# Altium integrated library Linear Technology Operational Amplifiers (LT2000-LT6000).IntLib: 1710 symbols (part 55 of 75)
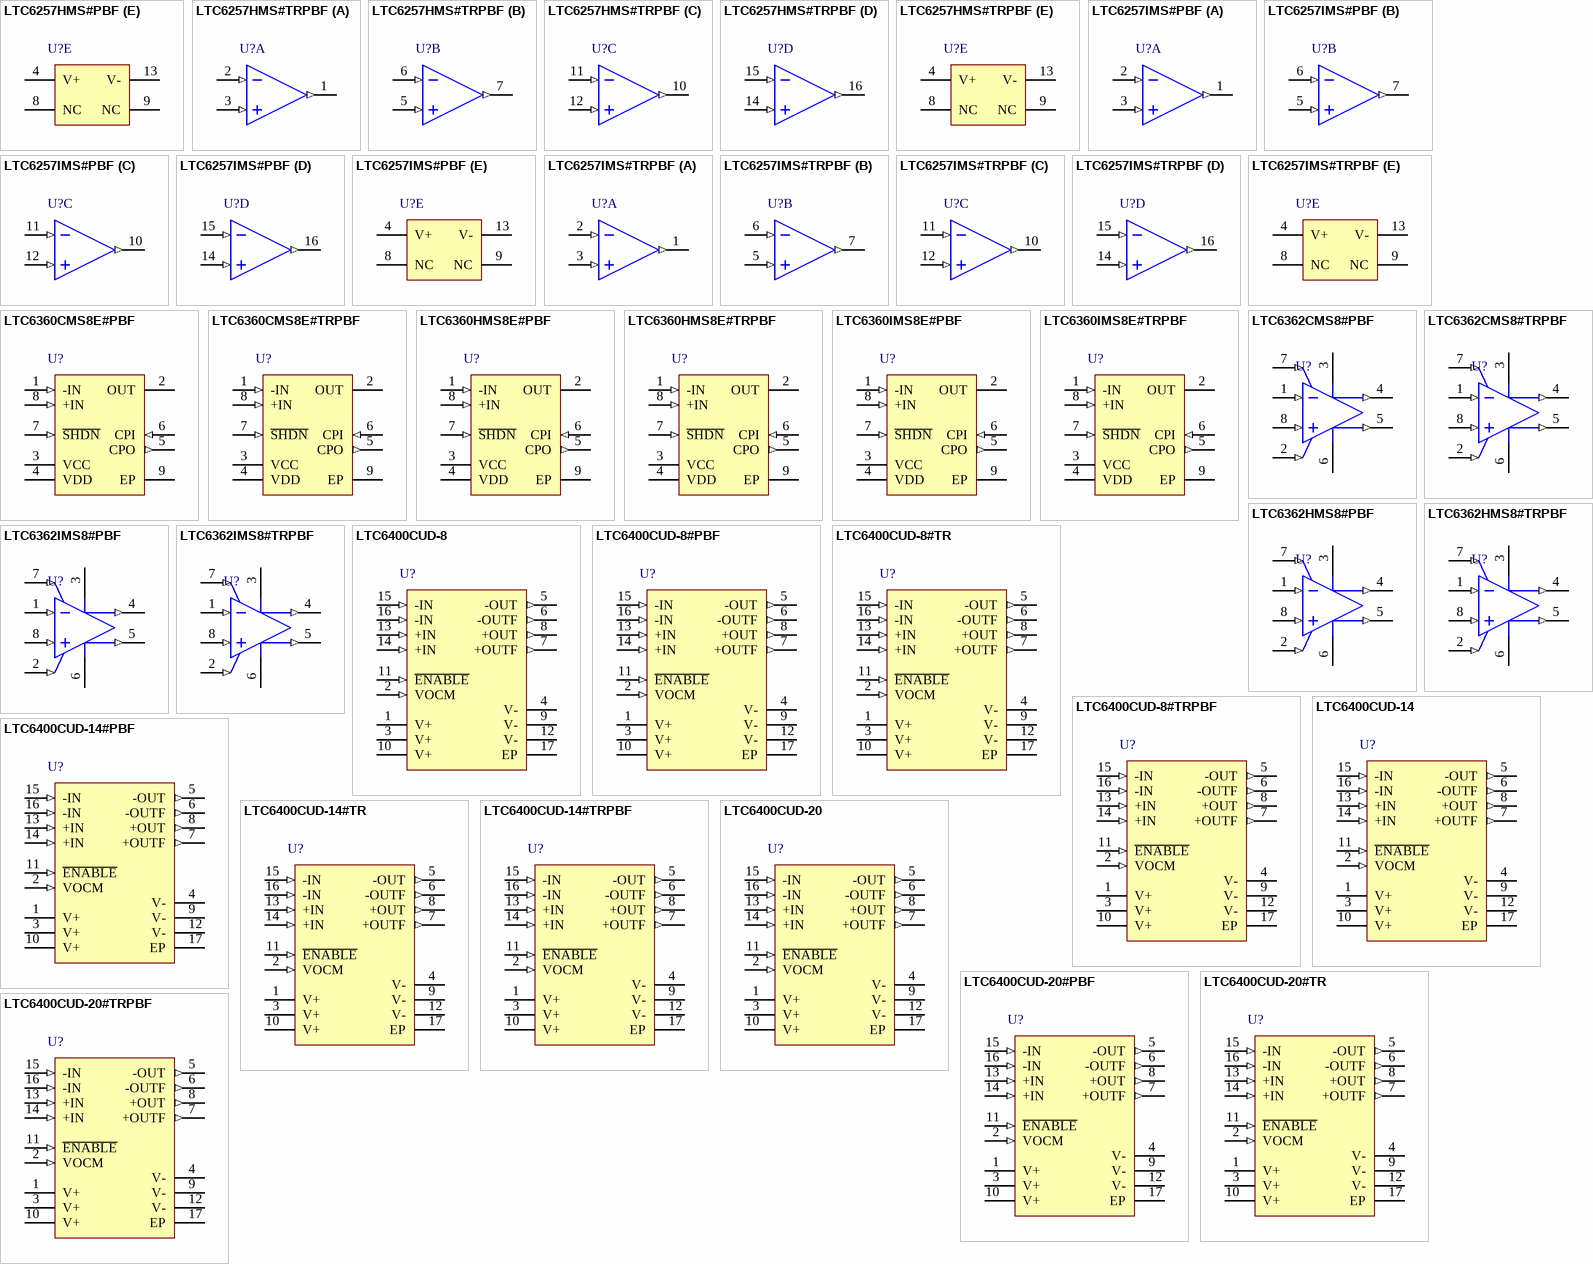
[diagram p134: symbols LTC6257HMS#PBF to LTC6400CUD-20#TRPBF]

## LTC6400CUD-14#PBF
designator U?
Single Channel, Low Noise, Low Distortion Differential ADC Driver for 300 MHz IF, 1860 MHz Typical GBW, 4800 V/us Typical SR, 2.85 to 3.5 V, 16-Pin QFN (UD-16), Commercial, Pb-Free; Linear Technology Part Number: LTC6400-14; Manufacturer: Linear Technology; PartNumber: LTC6400CUD-14#PBF; Channels (#): 1; GBW (MHz) Typical: 1860; Is (mA) Typical: 85; SR (V/us) Typical: 4800; Vos (mV) Typical: 3; Vs Max (V): 3.5; Vs Min (V): 2.85; DatasheetVersion: Rev. B; PackageReference: LT-UD-16; PackageDescription: 16-Lead Plastic QFN, Body 3.00 x 3.00 mm, Pitch 0.5 mm; Supplier 1: Digi-Key; Supplier Part Number 1: LTC6400CUD-14#PBF-ND; Supplier 2: Farnell; Supplier Part Number 2: 2314357; Supplier 3: Newark; Supplier Part Number 3: 95M6520; RoHS: Pb-Free; Type: DIFF; Mounting Technology: Surface Mount; Code_JEDEC: MO-220; ComponentLink1Description: Manufacturer URL; ComponentLink1URL: http://www.linear.com/; ComponentLink2Description: Datasheet; ComponentLink2URL: http://cds.linear.com/docs/en/datasheet/640014fb.pdf; ComponentLink3Description: Package Specification; ComponentLink3URL: http://cds.linear.com/docs/en/packaging/QFN_16_05-08-1691.pdf
footprint LT-UD-16_N (QFN, 16-Leads, Body 3x3mm, Pitch 0.5mm, Thermal Pad 1.45x1.45mm, IPC Medium Density)
footprint LT-UD-16_L (QFN, 16-Leads, Body 3x3mm, Pitch 0.5mm, Thermal Pad 1.45x1.45mm, IPC High Density)
footprint LT-UD-16_M (QFN, 16-Leads, Body 3x3mm, Pitch 0.5mm, Thermal Pad 1.45x1.45mm, IPC Low Density)
pins: 1 V+ (power) "Positive Power Supply (Normally tied to 3V or 3.3V). All three pins must be tied to the same voltage. Bypass each pin with 1000pF and 0.1uF capacitors as close to the pins as possible.", 2 VOCM (in) "This pin sets the output common mode voltage. A 0.1uF external bypass capacitor is recommended.", 3 V+ (power) "Positive Power Supply (Normally tied to 3V or 3.3V). All three pins must be tied to the same voltage. Bypass each pin with 1000pF and 0.1uF capacitors as close to the pins as possible.", 4 V- (power) "Negative Power Supply. All four pins must be connected to the same voltage/ground.", 5 -OUT (out) "Unfiltered Outputs. These pins have 12.5ohm series resistors.", 6 -OUTF (out) "Filtered Outputs. These pins have 50ohm series resistors and a 1.7pF shunt capacitance.", 7 +OUTF (out) "Filtered Outputs. These pins have 50ohm series resistors and a 1.7pF shunt capacitance.", 8 +OUT (out) "Unfiltered Outputs. These pins have 12.5ohm series resistors.", 9 V- (power) "Negative Power Supply. All four pins must be connected to the same voltage/ground.", 10 V+ (power) "Positive Power Supply (Normally tied to 3V or 3.3V). All three pins must be tied to the same voltage. Bypass each pin with 1000pF and 0.1uF capacitors as close to the pins as possible.", 11 ~{ENABLE} (in) "This pin is a logic input referenced to V-. If low, the part is enabled. If high, the part is disabled and draws approximately 1mA supply current.", 12 V- (power) "Negative Power Supply. All four pins must be connected to the same voltage/ground.", 13 +IN (in) "Positive Input. Pins 13 and 14 are internally shorted together.", 14 +IN (in) "Positive Input. Pins 13 and 14 are internally shorted together.", 15 -IN (in) "Negative Input. Pins 15 and 16 are internally shorted together.", 16 -IN (in) "Negative Input. Pins 15 and 16 are internally shorted together.", 17 EP (power) "The Exposed Pad must be connected to the same voltage/ground as pins 4, 9, 12."

## LTC6400CUD-14#TR
designator U?
Single Channel, Low Noise, Low Distortion Differential ADC Driver for 300 MHz IF, 1860 MHz Typical GBW, 4800 V/us Typical SR, 2.85 to 3.5 V, 16-Pin QFN (UD-16), Commercial, Reel; Linear Technology Part Number: LTC6400-14; Manufacturer: Linear Technology; PartNumber: LTC6400CUD-14#TR; Channels (#): 1; GBW (MHz) Typical: 1860; Is (mA) Typical: 85; SR (V/us) Typical: 4800; Vos (mV) Typical: 3; Vs Max (V): 3.5; Vs Min (V): 2.85; DatasheetVersion: Rev. B; PackageReference: LT-UD-16; PackageDescription: 16-Lead Plastic QFN, Body 3.00 x 3.00 mm, Pitch 0.5 mm; Supplier 1: Newark; Supplier Part Number 1: 95M6521; Packing: Reel; Type: DIFF; Mounting Technology: Surface Mount; Code_JEDEC: MO-220; ComponentLink1Description: Manufacturer URL; ComponentLink1URL: http://www.linear.com/; ComponentLink2Description: Datasheet; ComponentLink2URL: http://cds.linear.com/docs/en/datasheet/640014fb.pdf; ComponentLink3Description: Package Specification; ComponentLink3URL: http://cds.linear.com/docs/en/packaging/QFN_16_05-08-1691.pdf
footprint LT-UD-16_N (QFN, 16-Leads, Body 3x3mm, Pitch 0.5mm, Thermal Pad 1.45x1.45mm, IPC Medium Density)
footprint LT-UD-16_L (QFN, 16-Leads, Body 3x3mm, Pitch 0.5mm, Thermal Pad 1.45x1.45mm, IPC High Density)
footprint LT-UD-16_M (QFN, 16-Leads, Body 3x3mm, Pitch 0.5mm, Thermal Pad 1.45x1.45mm, IPC Low Density)
pins: 1 V+ (power) "Positive Power Supply (Normally tied to 3V or 3.3V). All three pins must be tied to the same voltage. Bypass each pin with 1000pF and 0.1uF capacitors as close to the pins as possible.", 2 VOCM (in) "This pin sets the output common mode voltage. A 0.1uF external bypass capacitor is recommended.", 3 V+ (power) "Positive Power Supply (Normally tied to 3V or 3.3V). All three pins must be tied to the same voltage. Bypass each pin with 1000pF and 0.1uF capacitors as close to the pins as possible.", 4 V- (power) "Negative Power Supply. All four pins must be connected to the same voltage/ground.", 5 -OUT (out) "Unfiltered Outputs. These pins have 12.5ohm series resistors.", 6 -OUTF (out) "Filtered Outputs. These pins have 50ohm series resistors and a 1.7pF shunt capacitance.", 7 +OUTF (out) "Filtered Outputs. These pins have 50ohm series resistors and a 1.7pF shunt capacitance.", 8 +OUT (out) "Unfiltered Outputs. These pins have 12.5ohm series resistors.", 9 V- (power) "Negative Power Supply. All four pins must be connected to the same voltage/ground.", 10 V+ (power) "Positive Power Supply (Normally tied to 3V or 3.3V). All three pins must be tied to the same voltage. Bypass each pin with 1000pF and 0.1uF capacitors as close to the pins as possible.", 11 ~{ENABLE} (in) "This pin is a logic input referenced to V-. If low, the part is enabled. If high, the part is disabled and draws approximately 1mA supply current.", 12 V- (power) "Negative Power Supply. All four pins must be connected to the same voltage/ground.", 13 +IN (in) "Positive Input. Pins 13 and 14 are internally shorted together.", 14 +IN (in) "Positive Input. Pins 13 and 14 are internally shorted together.", 15 -IN (in) "Negative Input. Pins 15 and 16 are internally shorted together.", 16 -IN (in) "Negative Input. Pins 15 and 16 are internally shorted together.", 17 EP (power) "The Exposed Pad must be connected to the same voltage/ground as pins 4, 9, 12."

## LTC6400CUD-14#TRPBF
designator U?
Single Channel, Low Noise, Low Distortion Differential ADC Driver for 300 MHz IF, 1860 MHz Typical GBW, 4800 V/us Typical SR, 2.85 to 3.5 V, 16-Pin QFN (UD-16), Commercial, Pb-Free, Reel; Linear Technology Part Number: LTC6400-14; Manufacturer: Linear Technology; PartNumber: LTC6400CUD-14#TRPBF; Channels (#): 1; GBW (MHz) Typical: 1860; Is (mA) Typical: 85; SR (V/us) Typical: 4800; Vos (mV) Typical: 3; Vs Max (V): 3.5; Vs Min (V): 2.85; DatasheetVersion: Rev. B; PackageReference: LT-UD-16; PackageDescription: 16-Lead Plastic QFN, Body 3.00 x 3.00 mm, Pitch 0.5 mm; Supplier 1: Digi-Key; Supplier Part Number 1: LTC6400CUD-14#TRPBF-ND; Supplier 2: Newark; Supplier Part Number 2: 95M6522; Packing: Reel; RoHS: Pb-Free; Type: DIFF; Mounting Technology: Surface Mount; Code_JEDEC: MO-220; ComponentLink1Description: Manufacturer URL; ComponentLink1URL: http://www.linear.com/; ComponentLink2Description: Datasheet; ComponentLink2URL: http://cds.linear.com/docs/en/datasheet/640014fb.pdf; ComponentLink3Description: Package Specification; ComponentLink3URL: http://cds.linear.com/docs/en/packaging/QFN_16_05-08-1691.pdf
footprint LT-UD-16_N (QFN, 16-Leads, Body 3x3mm, Pitch 0.5mm, Thermal Pad 1.45x1.45mm, IPC Medium Density)
footprint LT-UD-16_L (QFN, 16-Leads, Body 3x3mm, Pitch 0.5mm, Thermal Pad 1.45x1.45mm, IPC High Density)
footprint LT-UD-16_M (QFN, 16-Leads, Body 3x3mm, Pitch 0.5mm, Thermal Pad 1.45x1.45mm, IPC Low Density)
pins: 1 V+ (power) "Positive Power Supply (Normally tied to 3V or 3.3V). All three pins must be tied to the same voltage. Bypass each pin with 1000pF and 0.1uF capacitors as close to the pins as possible.", 2 VOCM (in) "This pin sets the output common mode voltage. A 0.1uF external bypass capacitor is recommended.", 3 V+ (power) "Positive Power Supply (Normally tied to 3V or 3.3V). All three pins must be tied to the same voltage. Bypass each pin with 1000pF and 0.1uF capacitors as close to the pins as possible.", 4 V- (power) "Negative Power Supply. All four pins must be connected to the same voltage/ground.", 5 -OUT (out) "Unfiltered Outputs. These pins have 12.5ohm series resistors.", 6 -OUTF (out) "Filtered Outputs. These pins have 50ohm series resistors and a 1.7pF shunt capacitance.", 7 +OUTF (out) "Filtered Outputs. These pins have 50ohm series resistors and a 1.7pF shunt capacitance.", 8 +OUT (out) "Unfiltered Outputs. These pins have 12.5ohm series resistors.", 9 V- (power) "Negative Power Supply. All four pins must be connected to the same voltage/ground.", 10 V+ (power) "Positive Power Supply (Normally tied to 3V or 3.3V). All three pins must be tied to the same voltage. Bypass each pin with 1000pF and 0.1uF capacitors as close to the pins as possible.", 11 ~{ENABLE} (in) "This pin is a logic input referenced to V-. If low, the part is enabled. If high, the part is disabled and draws approximately 1mA supply current.", 12 V- (power) "Negative Power Supply. All four pins must be connected to the same voltage/ground.", 13 +IN (in) "Positive Input. Pins 13 and 14 are internally shorted together.", 14 +IN (in) "Positive Input. Pins 13 and 14 are internally shorted together.", 15 -IN (in) "Negative Input. Pins 15 and 16 are internally shorted together.", 16 -IN (in) "Negative Input. Pins 15 and 16 are internally shorted together.", 17 EP (power) "The Exposed Pad must be connected to the same voltage/ground as pins 4, 9, 12."

## LTC6400CUD-20
designator U?
Single Channel, Low Noise, Low Distortion Differential ADC Driver for 300 MHz IF, 1800 MHz Typical GBW, 4500 V/us Typical SR, 2.85 to 3.5 V, 16-Pin QFN (UD-16), Commercial; Linear Technology Part Number: LTC6400-20; Manufacturer: Linear Technology; PartNumber: LTC6400CUD-20; Channels (#): 1; GBW (MHz) Typical: 1800; Is (mA) Typical: 90; SR (V/us) Typical: 4500; Vos (mV) Typical: 2; Vs Max (V): 3.5; Vs Min (V): 2.85; PackageReference: LT-UD-16; PackageDescription: 16-Lead Plastic QFN, Body 3.00 x 3.00 mm, Pitch 0.5 mm; Type: DIFF; Mounting Technology: Surface Mount; Code_JEDEC: MO-220; ComponentLink1Description: Manufacturer URL; ComponentLink1URL: http://www.linear.com/; ComponentLink2Description: Datasheet; ComponentLink2URL: http://cds.linear.com/docs/en/datasheet/640020f.pdf; ComponentLink3Description: Package Specification; ComponentLink3URL: http://cds.linear.com/docs/en/packaging/QFN_16_05-08-1691.pdf
footprint LT-UD-16_N (QFN, 16-Leads, Body 3x3mm, Pitch 0.5mm, Thermal Pad 1.45x1.45mm, IPC Medium Density)
footprint LT-UD-16_L (QFN, 16-Leads, Body 3x3mm, Pitch 0.5mm, Thermal Pad 1.45x1.45mm, IPC High Density)
footprint LT-UD-16_M (QFN, 16-Leads, Body 3x3mm, Pitch 0.5mm, Thermal Pad 1.45x1.45mm, IPC Low Density)
pins: 1 V+ (power) "Positive Power Supply (Normally tied to 3V or 3.3V). All three pins must be tied to the same voltage. Bypass each pin with 1000pF and 0.1uF capacitors as close to the pins as possible.", 2 VOCM (in) "This pin sets the output common mode voltage. A 0.1uF external bypass capacitor is recommended.", 3 V+ (power) "Positive Power Supply (Normally tied to 3V or 3.3V). All three pins must be tied to the same voltage. Bypass each pin with 1000pF and 0.1uF capacitors as close to the pins as possible.", 4 V- (power) "Negative Power Supply. All four pins must be connected to the same voltage/ground.", 5 -OUT (out) "Unfiltered Outputs. These pins have 12.5ohm series resistors.", 6 -OUTF (out) "Filtered Outputs. These pins have 50ohm series resistors and a 1.7pF shunt capacitance.", 7 +OUTF (out) "Filtered Outputs. These pins have 50ohm series resistors and a 1.7pF shunt capacitance.", 8 +OUT (out) "Unfiltered Outputs. These pins have 12.5ohm series resistors.", 9 V- (power) "Negative Power Supply. All four pins must be connected to the same voltage/ground.", 10 V+ (power) "Positive Power Supply (Normally tied to 3V or 3.3V). All three pins must be tied to the same voltage. Bypass each pin with 1000pF and 0.1uF capacitors as close to the pins as possible.", 11 ~{ENABLE} (in) "This pin is a logic input referenced to V-. If low, the part is enabled. If high, the part is disabled and draws approximately 1mA supply current.", 12 V- (power) "Negative Power Supply. All four pins must be connected to the same voltage/ground.", 13 +IN (in) "Positive Input. Pins 13 and 14 are internally shorted together.", 14 +IN (in) "Positive Input. Pins 13 and 14 are internally shorted together.", 15 -IN (in) "Negative Input. Pins 15 and 16 are internally shorted together.", 16 -IN (in) "Negative Input. Pins 15 and 16 are internally shorted together.", 17 EP (power) "The Exposed Pad must be connected to the same voltage/ground as pins 4, 9, 12."

## LTC6400CUD-20#PBF
designator U?
Single Channel, Low Noise, Low Distortion Differential ADC Driver for 300 MHz IF, 1800 MHz Typical GBW, 4500 V/us Typical SR, 2.85 to 3.5 V, 16-Pin QFN (UD-16), Commercial, Pb-Free; Linear Technology Part Number: LTC6400-20; Manufacturer: Linear Technology; PartNumber: LTC6400CUD-20#PBF; Channels (#): 1; GBW (MHz) Typical: 1800; Is (mA) Typical: 90; SR (V/us) Typical: 4500; Vos (mV) Typical: 2; Vs Max (V): 3.5; Vs Min (V): 2.85; PackageReference: LT-UD-16; PackageDescription: 16-Lead Plastic QFN, Body 3.00 x 3.00 mm, Pitch 0.5 mm; Supplier 1: Digi-Key; Supplier Part Number 1: LTC6400CUD-20#PBF-ND; Supplier 2: Newark; Supplier Part Number 2: 57M0101; RoHS: Pb-Free; Type: DIFF; Mounting Technology: Surface Mount; Code_JEDEC: MO-220; ComponentLink1Description: Manufacturer URL; ComponentLink1URL: http://www.linear.com/; ComponentLink2Description: Datasheet; ComponentLink2URL: http://cds.linear.com/docs/en/datasheet/640020f.pdf; ComponentLink3Description: Package Specification; ComponentLink3URL: http://cds.linear.com/docs/en/packaging/QFN_16_05-08-1691.pdf
footprint LT-UD-16_N (QFN, 16-Leads, Body 3x3mm, Pitch 0.5mm, Thermal Pad 1.45x1.45mm, IPC Medium Density)
footprint LT-UD-16_L (QFN, 16-Leads, Body 3x3mm, Pitch 0.5mm, Thermal Pad 1.45x1.45mm, IPC High Density)
footprint LT-UD-16_M (QFN, 16-Leads, Body 3x3mm, Pitch 0.5mm, Thermal Pad 1.45x1.45mm, IPC Low Density)
pins: 1 V+ (power) "Positive Power Supply (Normally tied to 3V or 3.3V). All three pins must be tied to the same voltage. Bypass each pin with 1000pF and 0.1uF capacitors as close to the pins as possible.", 2 VOCM (in) "This pin sets the output common mode voltage. A 0.1uF external bypass capacitor is recommended.", 3 V+ (power) "Positive Power Supply (Normally tied to 3V or 3.3V). All three pins must be tied to the same voltage. Bypass each pin with 1000pF and 0.1uF capacitors as close to the pins as possible.", 4 V- (power) "Negative Power Supply. All four pins must be connected to the same voltage/ground.", 5 -OUT (out) "Unfiltered Outputs. These pins have 12.5ohm series resistors.", 6 -OUTF (out) "Filtered Outputs. These pins have 50ohm series resistors and a 1.7pF shunt capacitance.", 7 +OUTF (out) "Filtered Outputs. These pins have 50ohm series resistors and a 1.7pF shunt capacitance.", 8 +OUT (out) "Unfiltered Outputs. These pins have 12.5ohm series resistors.", 9 V- (power) "Negative Power Supply. All four pins must be connected to the same voltage/ground.", 10 V+ (power) "Positive Power Supply (Normally tied to 3V or 3.3V). All three pins must be tied to the same voltage. Bypass each pin with 1000pF and 0.1uF capacitors as close to the pins as possible.", 11 ~{ENABLE} (in) "This pin is a logic input referenced to V-. If low, the part is enabled. If high, the part is disabled and draws approximately 1mA supply current.", 12 V- (power) "Negative Power Supply. All four pins must be connected to the same voltage/ground.", 13 +IN (in) "Positive Input. Pins 13 and 14 are internally shorted together.", 14 +IN (in) "Positive Input. Pins 13 and 14 are internally shorted together.", 15 -IN (in) "Negative Input. Pins 15 and 16 are internally shorted together.", 16 -IN (in) "Negative Input. Pins 15 and 16 are internally shorted together.", 17 EP (power) "The Exposed Pad must be connected to the same voltage/ground as pins 4, 9, 12."

## LTC6400CUD-20#TR
designator U?
Single Channel, Low Noise, Low Distortion Differential ADC Driver for 300 MHz IF, 1800 MHz Typical GBW, 4500 V/us Typical SR, 2.85 to 3.5 V, 16-Pin QFN (UD-16), Commercial, Reel; Linear Technology Part Number: LTC6400-20; Manufacturer: Linear Technology; PartNumber: LTC6400CUD-20#TR; Channels (#): 1; GBW (MHz) Typical: 1800; Is (mA) Typical: 90; SR (V/us) Typical: 4500; Vos (mV) Typical: 2; Vs Max (V): 3.5; Vs Min (V): 2.85; PackageReference: LT-UD-16; PackageDescription: 16-Lead Plastic QFN, Body 3.00 x 3.00 mm, Pitch 0.5 mm; Supplier 1: Newark; Supplier Part Number 1: 57M0102; Packing: Reel; Type: DIFF; Mounting Technology: Surface Mount; Code_JEDEC: MO-220; ComponentLink1Description: Manufacturer URL; ComponentLink1URL: http://www.linear.com/; ComponentLink2Description: Datasheet; ComponentLink2URL: http://cds.linear.com/docs/en/datasheet/640020f.pdf; ComponentLink3Description: Package Specification; ComponentLink3URL: http://cds.linear.com/docs/en/packaging/QFN_16_05-08-1691.pdf
footprint LT-UD-16_N (QFN, 16-Leads, Body 3x3mm, Pitch 0.5mm, Thermal Pad 1.45x1.45mm, IPC Medium Density)
footprint LT-UD-16_L (QFN, 16-Leads, Body 3x3mm, Pitch 0.5mm, Thermal Pad 1.45x1.45mm, IPC High Density)
footprint LT-UD-16_M (QFN, 16-Leads, Body 3x3mm, Pitch 0.5mm, Thermal Pad 1.45x1.45mm, IPC Low Density)
pins: 1 V+ (power) "Positive Power Supply (Normally tied to 3V or 3.3V). All three pins must be tied to the same voltage. Bypass each pin with 1000pF and 0.1uF capacitors as close to the pins as possible.", 2 VOCM (in) "This pin sets the output common mode voltage. A 0.1uF external bypass capacitor is recommended.", 3 V+ (power) "Positive Power Supply (Normally tied to 3V or 3.3V). All three pins must be tied to the same voltage. Bypass each pin with 1000pF and 0.1uF capacitors as close to the pins as possible.", 4 V- (power) "Negative Power Supply. All four pins must be connected to the same voltage/ground.", 5 -OUT (out) "Unfiltered Outputs. These pins have 12.5ohm series resistors.", 6 -OUTF (out) "Filtered Outputs. These pins have 50ohm series resistors and a 1.7pF shunt capacitance.", 7 +OUTF (out) "Filtered Outputs. These pins have 50ohm series resistors and a 1.7pF shunt capacitance.", 8 +OUT (out) "Unfiltered Outputs. These pins have 12.5ohm series resistors.", 9 V- (power) "Negative Power Supply. All four pins must be connected to the same voltage/ground.", 10 V+ (power) "Positive Power Supply (Normally tied to 3V or 3.3V). All three pins must be tied to the same voltage. Bypass each pin with 1000pF and 0.1uF capacitors as close to the pins as possible.", 11 ~{ENABLE} (in) "This pin is a logic input referenced to V-. If low, the part is enabled. If high, the part is disabled and draws approximately 1mA supply current.", 12 V- (power) "Negative Power Supply. All four pins must be connected to the same voltage/ground.", 13 +IN (in) "Positive Input. Pins 13 and 14 are internally shorted together.", 14 +IN (in) "Positive Input. Pins 13 and 14 are internally shorted together.", 15 -IN (in) "Negative Input. Pins 15 and 16 are internally shorted together.", 16 -IN (in) "Negative Input. Pins 15 and 16 are internally shorted together.", 17 EP (power) "The Exposed Pad must be connected to the same voltage/ground as pins 4, 9, 12."

## LTC6400CUD-20#TRPBF
designator U?
Single Channel, Low Noise, Low Distortion Differential ADC Driver for 300 MHz IF, 1800 MHz Typical GBW, 4500 V/us Typical SR, 2.85 to 3.5 V, 16-Pin QFN (UD-16), Commercial, Pb-Free, Reel; Linear Technology Part Number: LTC6400-20; Manufacturer: Linear Technology; PartNumber: LTC6400CUD-20#TRPBF; Channels (#): 1; GBW (MHz) Typical: 1800; Is (mA) Typical: 90; SR (V/us) Typical: 4500; Vos (mV) Typical: 2; Vs Max (V): 3.5; Vs Min (V): 2.85; PackageReference: LT-UD-16; PackageDescription: 16-Lead Plastic QFN, Body 3.00 x 3.00 mm, Pitch 0.5 mm; Supplier 1: Digi-Key; Supplier Part Number 1: LTC6400CUD-20#TRPBF-ND; Supplier 2: Newark; Supplier Part Number 2: 57M0103; Packing: Reel; RoHS: Pb-Free; Type: DIFF; Mounting Technology: Surface Mount; Code_JEDEC: MO-220; ComponentLink1Description: Manufacturer URL; ComponentLink1URL: http://www.linear.com/; ComponentLink2Description: Datasheet; ComponentLink2URL: http://cds.linear.com/docs/en/datasheet/640020f.pdf; ComponentLink3Description: Package Specification; ComponentLink3URL: http://cds.linear.com/docs/en/packaging/QFN_16_05-08-1691.pdf
footprint LT-UD-16_N (QFN, 16-Leads, Body 3x3mm, Pitch 0.5mm, Thermal Pad 1.45x1.45mm, IPC Medium Density)
footprint LT-UD-16_L (QFN, 16-Leads, Body 3x3mm, Pitch 0.5mm, Thermal Pad 1.45x1.45mm, IPC High Density)
footprint LT-UD-16_M (QFN, 16-Leads, Body 3x3mm, Pitch 0.5mm, Thermal Pad 1.45x1.45mm, IPC Low Density)
pins: 1 V+ (power) "Positive Power Supply (Normally tied to 3V or 3.3V). All three pins must be tied to the same voltage. Bypass each pin with 1000pF and 0.1uF capacitors as close to the pins as possible.", 2 VOCM (in) "This pin sets the output common mode voltage. A 0.1uF external bypass capacitor is recommended.", 3 V+ (power) "Positive Power Supply (Normally tied to 3V or 3.3V). All three pins must be tied to the same voltage. Bypass each pin with 1000pF and 0.1uF capacitors as close to the pins as possible.", 4 V- (power) "Negative Power Supply. All four pins must be connected to the same voltage/ground.", 5 -OUT (out) "Unfiltered Outputs. These pins have 12.5ohm series resistors.", 6 -OUTF (out) "Filtered Outputs. These pins have 50ohm series resistors and a 1.7pF shunt capacitance.", 7 +OUTF (out) "Filtered Outputs. These pins have 50ohm series resistors and a 1.7pF shunt capacitance.", 8 +OUT (out) "Unfiltered Outputs. These pins have 12.5ohm series resistors.", 9 V- (power) "Negative Power Supply. All four pins must be connected to the same voltage/ground.", 10 V+ (power) "Positive Power Supply (Normally tied to 3V or 3.3V). All three pins must be tied to the same voltage. Bypass each pin with 1000pF and 0.1uF capacitors as close to the pins as possible.", 11 ~{ENABLE} (in) "This pin is a logic input referenced to V-. If low, the part is enabled. If high, the part is disabled and draws approximately 1mA supply current.", 12 V- (power) "Negative Power Supply. All four pins must be connected to the same voltage/ground.", 13 +IN (in) "Positive Input. Pins 13 and 14 are internally shorted together.", 14 +IN (in) "Positive Input. Pins 13 and 14 are internally shorted together.", 15 -IN (in) "Negative Input. Pins 15 and 16 are internally shorted together.", 16 -IN (in) "Negative Input. Pins 15 and 16 are internally shorted together.", 17 EP (power) "The Exposed Pad must be connected to the same voltage/ground as pins 4, 9, 12."

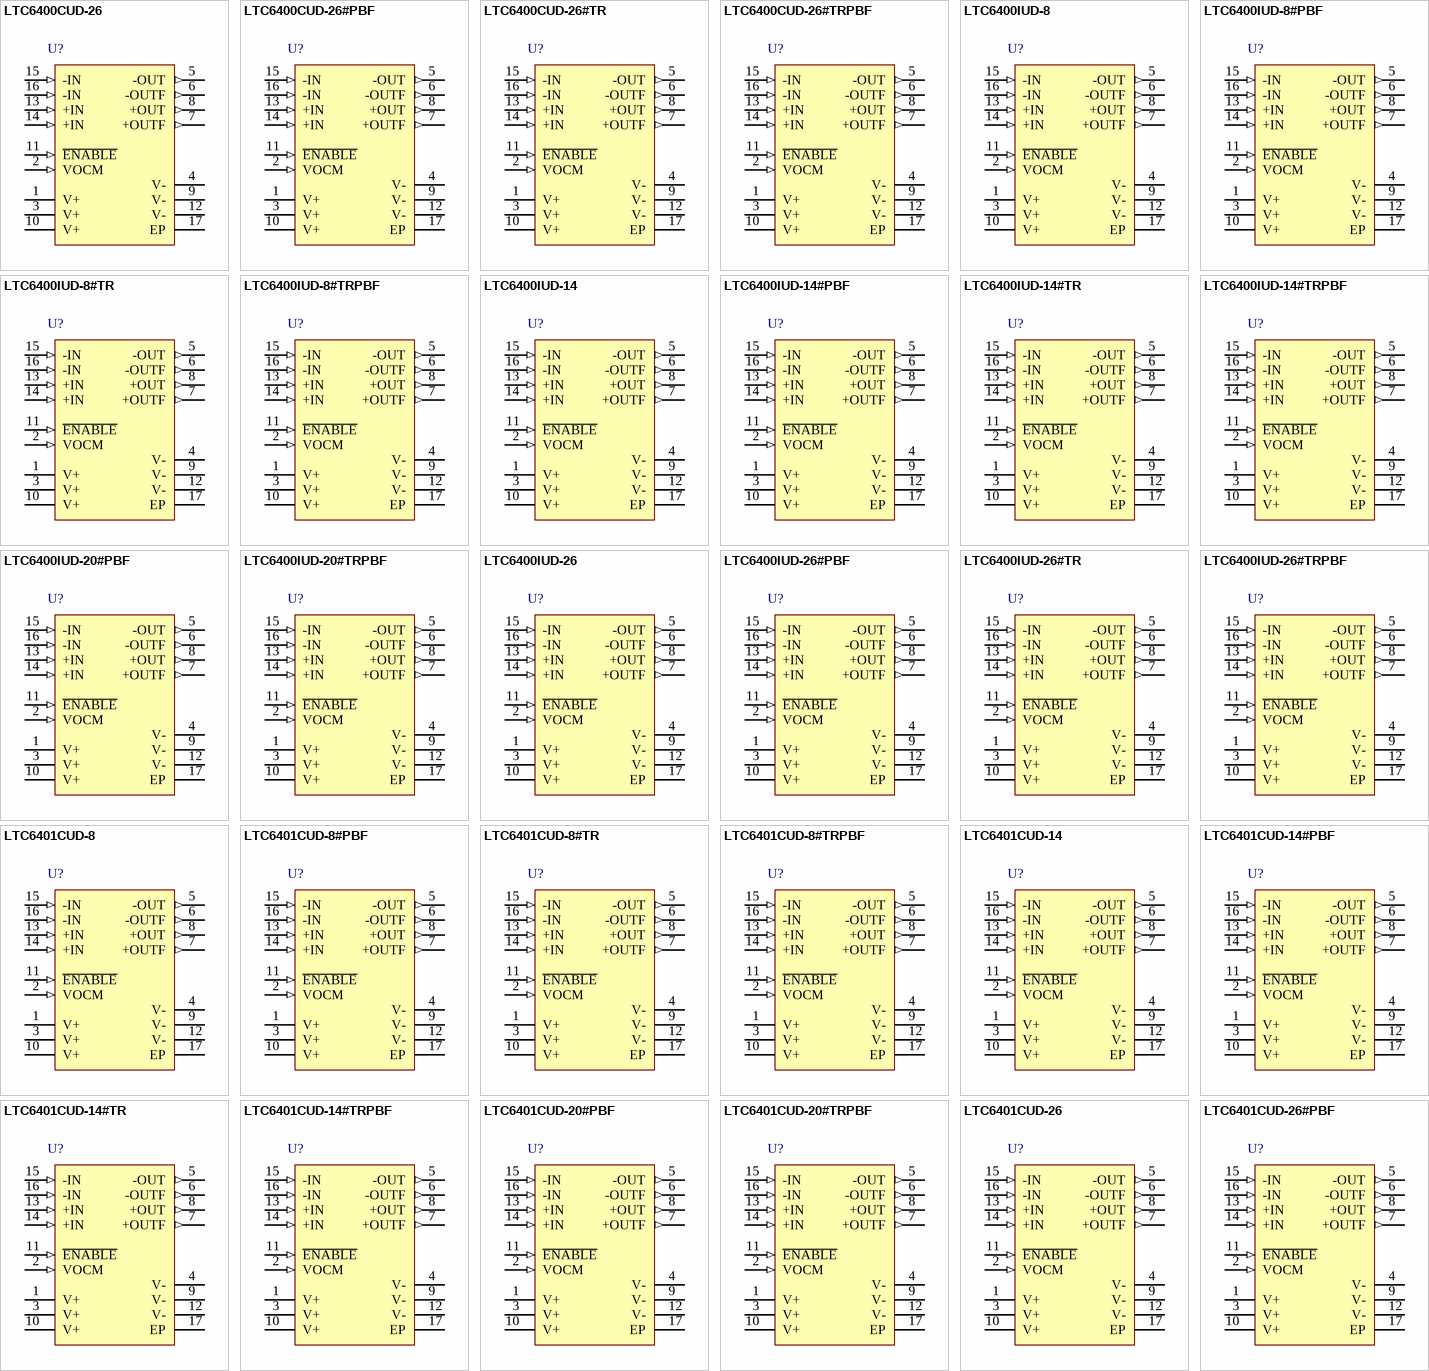
[diagram p72: symbols LTC6400CUD-26 to LTC6401CUD-26#PBF]

## LTC6400CUD-26
designator U?
Single Channel, Low Noise, Low Distortion Differential ADC Driver for DC-300 MHz, 1900 MHz Typical GBW, 6670 V/us Typical SR, 2.85 to 3.5 V, 16-Pin QFN (UD-16), Commercial; Linear Technology Part Number: LTC6400-26; Manufacturer: Linear Technology; PartNumber: LTC6400CUD-26; Channels (#): 1; GBW (MHz) Typical: 1900; Is (mA) Typical: 85; SR (V/us) Typical: 6670; Vos (mV) Typical: 2; Vs Max (V): 3.5; Vs Min (V): 2.85; DatasheetVersion: Rev. A; PackageReference: LT-UD-16; PackageDescription: 16-Lead Plastic QFN, Body 3.00 x 3.00 mm, Pitch 0.5 mm; Type: DIFF; Mounting Technology: Surface Mount; Code_JEDEC: MO-220; ComponentLink1Description: Manufacturer URL; ComponentLink1URL: http://www.linear.com/; ComponentLink2Description: Datasheet; ComponentLink2URL: http://cds.linear.com/docs/en/datasheet/640026fa.pdf; ComponentLink3Description: Package Specification; ComponentLink3URL: http://cds.linear.com/docs/en/packaging/QFN_16_05-08-1691.pdf
footprint LT-UD-16_N (QFN, 16-Leads, Body 3x3mm, Pitch 0.5mm, Thermal Pad 1.45x1.45mm, IPC Medium Density)
footprint LT-UD-16_L (QFN, 16-Leads, Body 3x3mm, Pitch 0.5mm, Thermal Pad 1.45x1.45mm, IPC High Density)
footprint LT-UD-16_M (QFN, 16-Leads, Body 3x3mm, Pitch 0.5mm, Thermal Pad 1.45x1.45mm, IPC Low Density)
pins: 1 V+ (power) "Positive Power Supply (Normally tied to 3V or 3.3V). All three pins must be tied to the same voltage. Bypass each pin with 1000pF and 0.1uF capacitors as close to the pins as possible.", 2 VOCM (in) "This pin sets the output common mode voltage. A 0.1uF external bypass capacitor is recommended.", 3 V+ (power) "Positive Power Supply (Normally tied to 3V or 3.3V). All three pins must be tied to the same voltage. Bypass each pin with 1000pF and 0.1uF capacitors as close to the pins as possible.", 4 V- (power) "Negative Power Supply. All four pins must be connected to the same voltage/ground.", 5 -OUT (out) "Unfiltered Outputs. These pins have 12.5ohm series resistors.", 6 -OUTF (out) "Filtered Outputs. These pins have 50ohm series resistors and a 1.7pF shunt capacitance.", 7 +OUTF (out) "Filtered Outputs. These pins have 50ohm series resistors and a 1.7pF shunt capacitance.", 8 +OUT (out) "Unfiltered Outputs. These pins have 12.5ohm series resistors.", 9 V- (power) "Negative Power Supply. All four pins must be connected to the same voltage/ground.", 10 V+ (power) "Positive Power Supply (Normally tied to 3V or 3.3V). All three pins must be tied to the same voltage. Bypass each pin with 1000pF and 0.1uF capacitors as close to the pins as possible.", 11 ~{ENABLE} (in) "This pin is a logic input referenced to V-. If low, the part is enabled. If high, the part is disabled and draws approximately 1mA supply current.", 12 V- (power) "Negative Power Supply. All four pins must be connected to the same voltage/ground.", 13 +IN (in) "Positive Input. Pins 13 and 14 are internally shorted together.", 14 +IN (in) "Positive Input. Pins 13 and 14 are internally shorted together.", 15 -IN (in) "Negative Input. Pins 15 and 16 are internally shorted together.", 16 -IN (in) "Negative Input. Pins 15 and 16 are internally shorted together.", 17 EP (power) "The Exposed Pad must be connected to the same voltage/ground as pins 4, 9, 12."

## LTC6400CUD-26#PBF
designator U?
Single Channel, Low Noise, Low Distortion Differential ADC Driver for DC-300 MHz, 1900 MHz Typical GBW, 6670 V/us Typical SR, 2.85 to 3.5 V, 16-Pin QFN (UD-16), Commercial, Pb-Free; Linear Technology Part Number: LTC6400-26; Manufacturer: Linear Technology; PartNumber: LTC6400CUD-26#PBF; Channels (#): 1; GBW (MHz) Typical: 1900; Is (mA) Typical: 85; SR (V/us) Typical: 6670; Vos (mV) Typical: 2; Vs Max (V): 3.5; Vs Min (V): 2.85; DatasheetVersion: Rev. A; PackageReference: LT-UD-16; PackageDescription: 16-Lead Plastic QFN, Body 3.00 x 3.00 mm, Pitch 0.5 mm; Supplier 1: Digi-Key; Supplier Part Number 1: LTC6400CUD-26#PBF-ND; Supplier 2: Newark; Supplier Part Number 2: 57M0105; RoHS: Pb-Free; Type: DIFF; Mounting Technology: Surface Mount; Code_JEDEC: MO-220; ComponentLink1Description: Manufacturer URL; ComponentLink1URL: http://www.linear.com/; ComponentLink2Description: Datasheet; ComponentLink2URL: http://cds.linear.com/docs/en/datasheet/640026fa.pdf; ComponentLink3Description: Package Specification; ComponentLink3URL: http://cds.linear.com/docs/en/packaging/QFN_16_05-08-1691.pdf
footprint LT-UD-16_N (QFN, 16-Leads, Body 3x3mm, Pitch 0.5mm, Thermal Pad 1.45x1.45mm, IPC Medium Density)
footprint LT-UD-16_L (QFN, 16-Leads, Body 3x3mm, Pitch 0.5mm, Thermal Pad 1.45x1.45mm, IPC High Density)
footprint LT-UD-16_M (QFN, 16-Leads, Body 3x3mm, Pitch 0.5mm, Thermal Pad 1.45x1.45mm, IPC Low Density)
pins: 1 V+ (power) "Positive Power Supply (Normally tied to 3V or 3.3V). All three pins must be tied to the same voltage. Bypass each pin with 1000pF and 0.1uF capacitors as close to the pins as possible.", 2 VOCM (in) "This pin sets the output common mode voltage. A 0.1uF external bypass capacitor is recommended.", 3 V+ (power) "Positive Power Supply (Normally tied to 3V or 3.3V). All three pins must be tied to the same voltage. Bypass each pin with 1000pF and 0.1uF capacitors as close to the pins as possible.", 4 V- (power) "Negative Power Supply. All four pins must be connected to the same voltage/ground.", 5 -OUT (out) "Unfiltered Outputs. These pins have 12.5ohm series resistors.", 6 -OUTF (out) "Filtered Outputs. These pins have 50ohm series resistors and a 1.7pF shunt capacitance.", 7 +OUTF (out) "Filtered Outputs. These pins have 50ohm series resistors and a 1.7pF shunt capacitance.", 8 +OUT (out) "Unfiltered Outputs. These pins have 12.5ohm series resistors.", 9 V- (power) "Negative Power Supply. All four pins must be connected to the same voltage/ground.", 10 V+ (power) "Positive Power Supply (Normally tied to 3V or 3.3V). All three pins must be tied to the same voltage. Bypass each pin with 1000pF and 0.1uF capacitors as close to the pins as possible.", 11 ~{ENABLE} (in) "This pin is a logic input referenced to V-. If low, the part is enabled. If high, the part is disabled and draws approximately 1mA supply current.", 12 V- (power) "Negative Power Supply. All four pins must be connected to the same voltage/ground.", 13 +IN (in) "Positive Input. Pins 13 and 14 are internally shorted together.", 14 +IN (in) "Positive Input. Pins 13 and 14 are internally shorted together.", 15 -IN (in) "Negative Input. Pins 15 and 16 are internally shorted together.", 16 -IN (in) "Negative Input. Pins 15 and 16 are internally shorted together.", 17 EP (power) "The Exposed Pad must be connected to the same voltage/ground as pins 4, 9, 12."

## LTC6400CUD-26#TR
designator U?
Single Channel, Low Noise, Low Distortion Differential ADC Driver for DC-300 MHz, 1900 MHz Typical GBW, 6670 V/us Typical SR, 2.85 to 3.5 V, 16-Pin QFN (UD-16), Commercial, Reel; Linear Technology Part Number: LTC6400-26; Manufacturer: Linear Technology; PartNumber: LTC6400CUD-26#TR; Channels (#): 1; GBW (MHz) Typical: 1900; Is (mA) Typical: 85; SR (V/us) Typical: 6670; Vos (mV) Typical: 2; Vs Max (V): 3.5; Vs Min (V): 2.85; DatasheetVersion: Rev. A; PackageReference: LT-UD-16; PackageDescription: 16-Lead Plastic QFN, Body 3.00 x 3.00 mm, Pitch 0.5 mm; Supplier 1: Newark; Supplier Part Number 1: 57M0106; Packing: Reel; Type: DIFF; Mounting Technology: Surface Mount; Code_JEDEC: MO-220; ComponentLink1Description: Manufacturer URL; ComponentLink1URL: http://www.linear.com/; ComponentLink2Description: Datasheet; ComponentLink2URL: http://cds.linear.com/docs/en/datasheet/640026fa.pdf; ComponentLink3Description: Package Specification; ComponentLink3URL: http://cds.linear.com/docs/en/packaging/QFN_16_05-08-1691.pdf
footprint LT-UD-16_N (QFN, 16-Leads, Body 3x3mm, Pitch 0.5mm, Thermal Pad 1.45x1.45mm, IPC Medium Density)
footprint LT-UD-16_L (QFN, 16-Leads, Body 3x3mm, Pitch 0.5mm, Thermal Pad 1.45x1.45mm, IPC High Density)
footprint LT-UD-16_M (QFN, 16-Leads, Body 3x3mm, Pitch 0.5mm, Thermal Pad 1.45x1.45mm, IPC Low Density)
pins: 1 V+ (power) "Positive Power Supply (Normally tied to 3V or 3.3V). All three pins must be tied to the same voltage. Bypass each pin with 1000pF and 0.1uF capacitors as close to the pins as possible.", 2 VOCM (in) "This pin sets the output common mode voltage. A 0.1uF external bypass capacitor is recommended.", 3 V+ (power) "Positive Power Supply (Normally tied to 3V or 3.3V). All three pins must be tied to the same voltage. Bypass each pin with 1000pF and 0.1uF capacitors as close to the pins as possible.", 4 V- (power) "Negative Power Supply. All four pins must be connected to the same voltage/ground.", 5 -OUT (out) "Unfiltered Outputs. These pins have 12.5ohm series resistors.", 6 -OUTF (out) "Filtered Outputs. These pins have 50ohm series resistors and a 1.7pF shunt capacitance.", 7 +OUTF (out) "Filtered Outputs. These pins have 50ohm series resistors and a 1.7pF shunt capacitance.", 8 +OUT (out) "Unfiltered Outputs. These pins have 12.5ohm series resistors.", 9 V- (power) "Negative Power Supply. All four pins must be connected to the same voltage/ground.", 10 V+ (power) "Positive Power Supply (Normally tied to 3V or 3.3V). All three pins must be tied to the same voltage. Bypass each pin with 1000pF and 0.1uF capacitors as close to the pins as possible.", 11 ~{ENABLE} (in) "This pin is a logic input referenced to V-. If low, the part is enabled. If high, the part is disabled and draws approximately 1mA supply current.", 12 V- (power) "Negative Power Supply. All four pins must be connected to the same voltage/ground.", 13 +IN (in) "Positive Input. Pins 13 and 14 are internally shorted together.", 14 +IN (in) "Positive Input. Pins 13 and 14 are internally shorted together.", 15 -IN (in) "Negative Input. Pins 15 and 16 are internally shorted together.", 16 -IN (in) "Negative Input. Pins 15 and 16 are internally shorted together.", 17 EP (power) "The Exposed Pad must be connected to the same voltage/ground as pins 4, 9, 12."

## LTC6400CUD-26#TRPBF
designator U?
Single Channel, Low Noise, Low Distortion Differential ADC Driver for DC-300 MHz, 1900 MHz Typical GBW, 6670 V/us Typical SR, 2.85 to 3.5 V, 16-Pin QFN (UD-16), Commercial, Pb-Free, Reel; Linear Technology Part Number: LTC6400-26; Manufacturer: Linear Technology; PartNumber: LTC6400CUD-26#TRPBF; Channels (#): 1; GBW (MHz) Typical: 1900; Is (mA) Typical: 85; SR (V/us) Typical: 6670; Vos (mV) Typical: 2; Vs Max (V): 3.5; Vs Min (V): 2.85; DatasheetVersion: Rev. A; PackageReference: LT-UD-16; PackageDescription: 16-Lead Plastic QFN, Body 3.00 x 3.00 mm, Pitch 0.5 mm; Supplier 1: Digi-Key; Supplier Part Number 1: LTC6400CUD-26#TRPBF-ND; Supplier 2: Newark; Supplier Part Number 2: 57M0107; Packing: Reel; RoHS: Pb-Free; Type: DIFF; Mounting Technology: Surface Mount; Code_JEDEC: MO-220; ComponentLink1Description: Manufacturer URL; ComponentLink1URL: http://www.linear.com/; ComponentLink2Description: Datasheet; ComponentLink2URL: http://cds.linear.com/docs/en/datasheet/640026fa.pdf; ComponentLink3Description: Package Specification; ComponentLink3URL: http://cds.linear.com/docs/en/packaging/QFN_16_05-08-1691.pdf
footprint LT-UD-16_N (QFN, 16-Leads, Body 3x3mm, Pitch 0.5mm, Thermal Pad 1.45x1.45mm, IPC Medium Density)
footprint LT-UD-16_L (QFN, 16-Leads, Body 3x3mm, Pitch 0.5mm, Thermal Pad 1.45x1.45mm, IPC High Density)
footprint LT-UD-16_M (QFN, 16-Leads, Body 3x3mm, Pitch 0.5mm, Thermal Pad 1.45x1.45mm, IPC Low Density)
pins: 1 V+ (power) "Positive Power Supply (Normally tied to 3V or 3.3V). All three pins must be tied to the same voltage. Bypass each pin with 1000pF and 0.1uF capacitors as close to the pins as possible.", 2 VOCM (in) "This pin sets the output common mode voltage. A 0.1uF external bypass capacitor is recommended.", 3 V+ (power) "Positive Power Supply (Normally tied to 3V or 3.3V). All three pins must be tied to the same voltage. Bypass each pin with 1000pF and 0.1uF capacitors as close to the pins as possible.", 4 V- (power) "Negative Power Supply. All four pins must be connected to the same voltage/ground.", 5 -OUT (out) "Unfiltered Outputs. These pins have 12.5ohm series resistors.", 6 -OUTF (out) "Filtered Outputs. These pins have 50ohm series resistors and a 1.7pF shunt capacitance.", 7 +OUTF (out) "Filtered Outputs. These pins have 50ohm series resistors and a 1.7pF shunt capacitance.", 8 +OUT (out) "Unfiltered Outputs. These pins have 12.5ohm series resistors.", 9 V- (power) "Negative Power Supply. All four pins must be connected to the same voltage/ground.", 10 V+ (power) "Positive Power Supply (Normally tied to 3V or 3.3V). All three pins must be tied to the same voltage. Bypass each pin with 1000pF and 0.1uF capacitors as close to the pins as possible.", 11 ~{ENABLE} (in) "This pin is a logic input referenced to V-. If low, the part is enabled. If high, the part is disabled and draws approximately 1mA supply current.", 12 V- (power) "Negative Power Supply. All four pins must be connected to the same voltage/ground.", 13 +IN (in) "Positive Input. Pins 13 and 14 are internally shorted together.", 14 +IN (in) "Positive Input. Pins 13 and 14 are internally shorted together.", 15 -IN (in) "Negative Input. Pins 15 and 16 are internally shorted together.", 16 -IN (in) "Negative Input. Pins 15 and 16 are internally shorted together.", 17 EP (power) "The Exposed Pad must be connected to the same voltage/ground as pins 4, 9, 12."

## LTC6400IUD-8
designator U?
Single Channel, Low Noise, Low Distortion Differential ADC Driver for DC-300 MHz, 2200 MHz Typical GBW, 3810 V/us Typical SR, 2.85 to 3.5 V, 16-Pin QFN (UD-16), Industrial; Linear Technology Part Number: LTC6400-8; Manufacturer: Linear Technology; PartNumber: LTC6400IUD-8; Channels (#): 1; GBW (MHz) Typical: 2200; Is (mA) Typical: 85; SR (V/us) Typical: 3810; Vos (mV) Typical: 5; Vs Max (V): 3.5; Vs Min (V): 2.85; PackageReference: LT-UD-16; PackageDescription: 16-Lead Plastic QFN, Body 3.00 x 3.00 mm, Pitch 0.5 mm; Type: DIFF; Mounting Technology: Surface Mount; Code_JEDEC: MO-220; ComponentLink1Description: Manufacturer URL; ComponentLink1URL: http://www.linear.com/; ComponentLink2Description: Datasheet; ComponentLink2URL: http://cds.linear.com/docs/en/datasheet/64008f.pdf; ComponentLink3Description: Package Specification; ComponentLink3URL: http://cds.linear.com/docs/en/packaging/QFN_16_05-08-1691.pdf
footprint LT-UD-16_N (QFN, 16-Leads, Body 3x3mm, Pitch 0.5mm, Thermal Pad 1.45x1.45mm, IPC Medium Density)
footprint LT-UD-16_L (QFN, 16-Leads, Body 3x3mm, Pitch 0.5mm, Thermal Pad 1.45x1.45mm, IPC High Density)
footprint LT-UD-16_M (QFN, 16-Leads, Body 3x3mm, Pitch 0.5mm, Thermal Pad 1.45x1.45mm, IPC Low Density)
pins: 1 V+ (power) "Positive Power Supply (Normally tied to 3V or 3.3V). All three pins must be tied to the same voltage. Bypass each pin with 1000pF and 0.1uF capacitors as close to the pins as possible.", 2 VOCM (in) "This pin sets the output common mode voltage. A 0.1uF external bypass capacitor is recommended.", 3 V+ (power) "Positive Power Supply (Normally tied to 3V or 3.3V). All three pins must be tied to the same voltage. Bypass each pin with 1000pF and 0.1uF capacitors as close to the pins as possible.", 4 V- (power) "Negative Power Supply. All four pins must be connected to the same voltage/ground.", 5 -OUT (out) "Unfiltered Outputs. These pins have 12.5ohm series resistors.", 6 -OUTF (out) "Filtered Outputs. These pins have 50ohm series resistors and a 1.7pF shunt capacitance.", 7 +OUTF (out) "Filtered Outputs. These pins have 50ohm series resistors and a 1.7pF shunt capacitance.", 8 +OUT (out) "Unfiltered Outputs. These pins have 12.5ohm series resistors.", 9 V- (power) "Negative Power Supply. All four pins must be connected to the same voltage/ground.", 10 V+ (power) "Positive Power Supply (Normally tied to 3V or 3.3V). All three pins must be tied to the same voltage. Bypass each pin with 1000pF and 0.1uF capacitors as close to the pins as possible.", 11 ~{ENABLE} (in) "This pin is a logic input referenced to V-. If low, the part is enabled. If high, the part is disabled and draws approximately 1mA supply current.", 12 V- (power) "Negative Power Supply. All four pins must be connected to the same voltage/ground.", 13 +IN (in) "Positive Input. Pins 13 and 14 are internally shorted together.", 14 +IN (in) "Positive Input. Pins 13 and 14 are internally shorted together.", 15 -IN (in) "Negative Input. Pins 15 and 16 are internally shorted together.", 16 -IN (in) "Negative Input. Pins 15 and 16 are internally shorted together.", 17 EP (power) "The Exposed Pad must be connected to the same voltage/ground as pins 4, 9, 12."

## LTC6400IUD-8#PBF
designator U?
Single Channel, Low Noise, Low Distortion Differential ADC Driver for DC-300 MHz, 2200 MHz Typical GBW, 3810 V/us Typical SR, 2.85 to 3.5 V, 16-Pin QFN (UD-16), Industrial, Pb-Free; Linear Technology Part Number: LTC6400-8; Manufacturer: Linear Technology; PartNumber: LTC6400IUD-8#PBF; Channels (#): 1; GBW (MHz) Typical: 2200; Is (mA) Typical: 85; SR (V/us) Typical: 3810; Vos (mV) Typical: 5; Vs Max (V): 3.5; Vs Min (V): 2.85; PackageReference: LT-UD-16; PackageDescription: 16-Lead Plastic QFN, Body 3.00 x 3.00 mm, Pitch 0.5 mm; Supplier 1: Digi-Key; Supplier Part Number 1: LTC6400IUD-8#PBF-ND; Supplier 2: Newark; Supplier Part Number 2: 07P8342; RoHS: Pb-Free; Type: DIFF; Mounting Technology: Surface Mount; Code_JEDEC: MO-220; ComponentLink1Description: Manufacturer URL; ComponentLink1URL: http://www.linear.com/; ComponentLink2Description: Datasheet; ComponentLink2URL: http://cds.linear.com/docs/en/datasheet/64008f.pdf; ComponentLink3Description: Package Specification; ComponentLink3URL: http://cds.linear.com/docs/en/packaging/QFN_16_05-08-1691.pdf
footprint LT-UD-16_N (QFN, 16-Leads, Body 3x3mm, Pitch 0.5mm, Thermal Pad 1.45x1.45mm, IPC Medium Density)
footprint LT-UD-16_L (QFN, 16-Leads, Body 3x3mm, Pitch 0.5mm, Thermal Pad 1.45x1.45mm, IPC High Density)
footprint LT-UD-16_M (QFN, 16-Leads, Body 3x3mm, Pitch 0.5mm, Thermal Pad 1.45x1.45mm, IPC Low Density)
pins: 1 V+ (power) "Positive Power Supply (Normally tied to 3V or 3.3V). All three pins must be tied to the same voltage. Bypass each pin with 1000pF and 0.1uF capacitors as close to the pins as possible.", 2 VOCM (in) "This pin sets the output common mode voltage. A 0.1uF external bypass capacitor is recommended.", 3 V+ (power) "Positive Power Supply (Normally tied to 3V or 3.3V). All three pins must be tied to the same voltage. Bypass each pin with 1000pF and 0.1uF capacitors as close to the pins as possible.", 4 V- (power) "Negative Power Supply. All four pins must be connected to the same voltage/ground.", 5 -OUT (out) "Unfiltered Outputs. These pins have 12.5ohm series resistors.", 6 -OUTF (out) "Filtered Outputs. These pins have 50ohm series resistors and a 1.7pF shunt capacitance.", 7 +OUTF (out) "Filtered Outputs. These pins have 50ohm series resistors and a 1.7pF shunt capacitance.", 8 +OUT (out) "Unfiltered Outputs. These pins have 12.5ohm series resistors.", 9 V- (power) "Negative Power Supply. All four pins must be connected to the same voltage/ground.", 10 V+ (power) "Positive Power Supply (Normally tied to 3V or 3.3V). All three pins must be tied to the same voltage. Bypass each pin with 1000pF and 0.1uF capacitors as close to the pins as possible.", 11 ~{ENABLE} (in) "This pin is a logic input referenced to V-. If low, the part is enabled. If high, the part is disabled and draws approximately 1mA supply current.", 12 V- (power) "Negative Power Supply. All four pins must be connected to the same voltage/ground.", 13 +IN (in) "Positive Input. Pins 13 and 14 are internally shorted together.", 14 +IN (in) "Positive Input. Pins 13 and 14 are internally shorted together.", 15 -IN (in) "Negative Input. Pins 15 and 16 are internally shorted together.", 16 -IN (in) "Negative Input. Pins 15 and 16 are internally shorted together.", 17 EP (power) "The Exposed Pad must be connected to the same voltage/ground as pins 4, 9, 12."

## LTC6400IUD-8#TR
designator U?
Single Channel, Low Noise, Low Distortion Differential ADC Driver for DC-300 MHz, 2200 MHz Typical GBW, 3810 V/us Typical SR, 2.85 to 3.5 V, 16-Pin QFN (UD-16), Industrial, Reel; Linear Technology Part Number: LTC6400-8; Manufacturer: Linear Technology; PartNumber: LTC6400IUD-8#TR; Channels (#): 1; GBW (MHz) Typical: 2200; Is (mA) Typical: 85; SR (V/us) Typical: 3810; Vos (mV) Typical: 5; Vs Max (V): 3.5; Vs Min (V): 2.85; PackageReference: LT-UD-16; PackageDescription: 16-Lead Plastic QFN, Body 3.00 x 3.00 mm, Pitch 0.5 mm; Supplier 1: Newark; Supplier Part Number 1: 07P8343; Packing: Reel; Type: DIFF; Mounting Technology: Surface Mount; Code_JEDEC: MO-220; ComponentLink1Description: Manufacturer URL; ComponentLink1URL: http://www.linear.com/; ComponentLink2Description: Datasheet; ComponentLink2URL: http://cds.linear.com/docs/en/datasheet/64008f.pdf; ComponentLink3Description: Package Specification; ComponentLink3URL: http://cds.linear.com/docs/en/packaging/QFN_16_05-08-1691.pdf
footprint LT-UD-16_N (QFN, 16-Leads, Body 3x3mm, Pitch 0.5mm, Thermal Pad 1.45x1.45mm, IPC Medium Density)
footprint LT-UD-16_L (QFN, 16-Leads, Body 3x3mm, Pitch 0.5mm, Thermal Pad 1.45x1.45mm, IPC High Density)
footprint LT-UD-16_M (QFN, 16-Leads, Body 3x3mm, Pitch 0.5mm, Thermal Pad 1.45x1.45mm, IPC Low Density)
pins: 1 V+ (power) "Positive Power Supply (Normally tied to 3V or 3.3V). All three pins must be tied to the same voltage. Bypass each pin with 1000pF and 0.1uF capacitors as close to the pins as possible.", 2 VOCM (in) "This pin sets the output common mode voltage. A 0.1uF external bypass capacitor is recommended.", 3 V+ (power) "Positive Power Supply (Normally tied to 3V or 3.3V). All three pins must be tied to the same voltage. Bypass each pin with 1000pF and 0.1uF capacitors as close to the pins as possible.", 4 V- (power) "Negative Power Supply. All four pins must be connected to the same voltage/ground.", 5 -OUT (out) "Unfiltered Outputs. These pins have 12.5ohm series resistors.", 6 -OUTF (out) "Filtered Outputs. These pins have 50ohm series resistors and a 1.7pF shunt capacitance.", 7 +OUTF (out) "Filtered Outputs. These pins have 50ohm series resistors and a 1.7pF shunt capacitance.", 8 +OUT (out) "Unfiltered Outputs. These pins have 12.5ohm series resistors.", 9 V- (power) "Negative Power Supply. All four pins must be connected to the same voltage/ground.", 10 V+ (power) "Positive Power Supply (Normally tied to 3V or 3.3V). All three pins must be tied to the same voltage. Bypass each pin with 1000pF and 0.1uF capacitors as close to the pins as possible.", 11 ~{ENABLE} (in) "This pin is a logic input referenced to V-. If low, the part is enabled. If high, the part is disabled and draws approximately 1mA supply current.", 12 V- (power) "Negative Power Supply. All four pins must be connected to the same voltage/ground.", 13 +IN (in) "Positive Input. Pins 13 and 14 are internally shorted together.", 14 +IN (in) "Positive Input. Pins 13 and 14 are internally shorted together.", 15 -IN (in) "Negative Input. Pins 15 and 16 are internally shorted together.", 16 -IN (in) "Negative Input. Pins 15 and 16 are internally shorted together.", 17 EP (power) "The Exposed Pad must be connected to the same voltage/ground as pins 4, 9, 12."